# EAGLE library part POT_DUAL (library _mtvl.pots)
POT dual gang
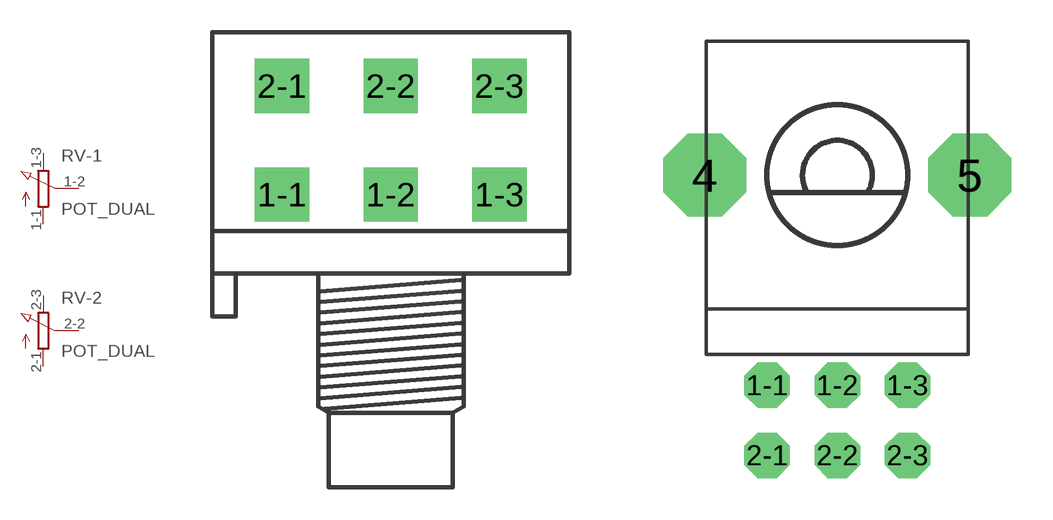
[diagram p0: symbol with the pads of 3RP/1610G; footprints 3RP/1610G, POT_RV09_DUAL]

Designator prefix RV; gates -1=POT_EU- -2=POT_EU-

## POT_DUAL16MM_R  [3RP/1610G]
1-1  -1:1  pas
1-2  -1:2  pas
1-3  -1:3  pas
2-1  -2:1  pas
2-2  -2:2  pas
2-3  -2:3  pas

## POT_DUAL  [POT_RV09_DUAL]
Pads as for 3RP/1610G

## POT_DUAL16MM_V  [16MM_DUALGANG]
Pads as for 3RP/1610G

## POT_DUALVN  [POT_RV09_DUAL_NOMOUNT]
Pads as for 3RP/1610G

## Footprint 3RP/1610G (pad centres in mm)
16mm Potentiometer two level Source: http://www.alphapotentiometers.net/html/16mm_pot_2.html
drill 1.2 pad 2.54 square: 1-1 -5.08,0; 1-2 0,0; 1-3 5.08,0; 2-1 -5.08,5.08; 2-2 0,5.08; 2-3 5.08,5.08

## Footprint POT_RV09_DUAL (pad centres in mm)
ALPHA 9mm dual gang
drill 1.1 octagon: 1-1 -2.54,-7.62; 1-2 0,-7.62; 1-3 2.54,-7.62; 2-1 -2.54,-10.16; 2-2 0,-10.16; 2-3 2.54,-10.16
drill 2 octagon: 4 -4.8,0; 5 4.8,0

## Footprint 16MM_DUALGANG (pad centres in mm)
16mm / Right-Angle / PC Mount / Dual-Gang http://smallbear-electronics.mybigcommerce.com/alpha-dual-gang-16mm-pc-mount/
drill 1.5 square: 1-1 -5.08,-10.795; 2-1 -5.08,-15.875
drill 1.5 octagon: 1-2 0,-10.795; 1-3 5.08,-10.795; 2-2 0,-15.875; 2-3 5.08,-15.875

## Footprint POT_RV09_DUAL_NOMOUNT (pad centres in mm)
Alpha 9mm vertical dual gang without mounting holes
drill 1.1 octagon: 1-1 -2.54,-7.62; 1-2 0,-7.62; 1-3 2.54,-7.62; 2-1 -2.54,-10.16; 2-2 0,-10.16; 2-3 2.54,-10.16